# Altium schematic symbol library STC4054.Schlib: 1 symbol
Pins are listed as number, name and electrical type; pins without a type are passive.

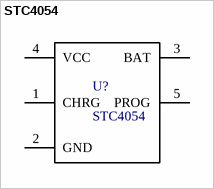
[diagram p0: symbol STC4054]

## STC4054
designator U?
Batt Charger, Li-Ion 800mA, TSOT23-5L, STC4054
pins: 1 CHRG, 2 GND, 3 BAT, 4 VCC, 5 PROG